# Altium schematic symbol library SS24.SchLib: 1 symbol
Pins are listed as number, name and electrical type; pins without a type are passive.

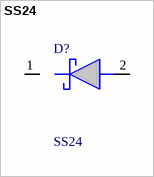
[diagram p0: symbol SS24]

## SS24
designator D?
TAIWAN SEMICONDUCTOR - SS24 - SCHOTTKY RECTIFIER, 2A, 40V, DO-214AA; Geometry.Height: 2.47mm; Mouser Part Number: 821-SS24; Mouser Price/Stock: https://www.mouser.co.uk/ProductDetail/Taiwan-Semiconductor/SS24?qs=JV7lzlMm3yKXRBg9WjRCYA%3D%3D; Manufacturer_Name: Taiwan Semiconductor; Manufacturer_Part_Number: SS24; Datasheet Link: https://www.onsemi.com/pub/Collateral/SS24-D.PDF
footprint DIOM5436X247N
pins: 1 K, 2 A